# Altium schematic symbol library 4 Leg Switch.SchLib: 1 symbol
Pins are listed as number, name and electrical type; pins without a type are passive.

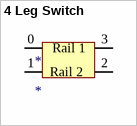
[diagram p0: symbol 4 Leg Switch]

## 4 Leg Switch
designator *
footprint 4 Leg Switch
pins: 0 Rail 1, 1 Rail 2, 2 Rail 2, 3 Rail 1